# Altium schematic symbol library Jumper (0805 Compatible).Schlib: 1 symbol
Pins are listed as number, name and electrical type; pins without a type are passive.

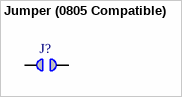
[diagram p0: symbol Jumper (0805 Compatible)]

## Jumper (0805 Compatible)
designator J?  (value not drawn)
pins: 1, 2